# Altium schematic symbol library NC7NZ34.SchLib: 1 symbol
Pins are listed as number, name and electrical type; pins without a type are passive.

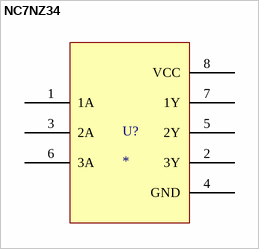
[diagram p0: symbol NC7NZ34]

## NC7NZ34
designator U?
footprint Model Name (Footprint not found)
footprint NC7NZ34
pins: 1 1A, 2 3Y, 3 2A, 4 GND, 5 2Y, 6 3A, 7 1Y, 8 VCC